# Altium schematic symbol library Display.SchLib: 2 symbols
Pins are listed as number, name and electrical type; pins without a type are passive.

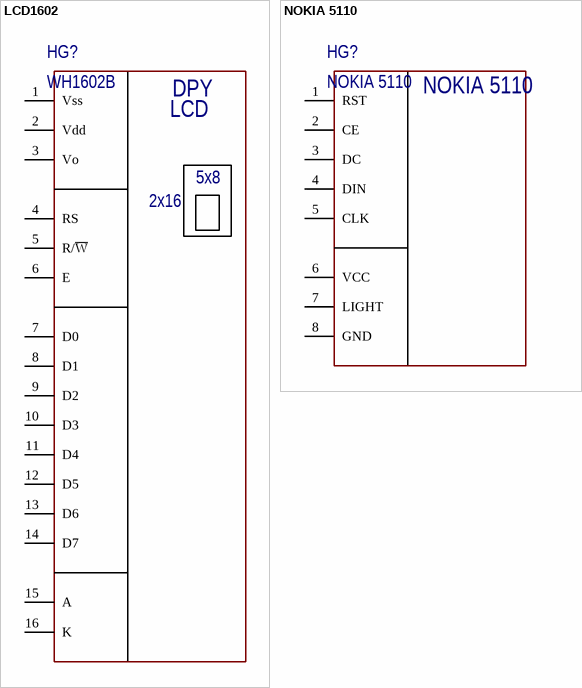
[diagram p0: symbols LCD1602 to NOKIA 5110]

## LCD1602
designator HG?, comment WH1602B
Производитель: *; УникальныйНомер: *; Типоразмер: *; Ссылка: *; ТипКомпонента: *; Точность: *; Напряжение: *; Значение: *
footprint DISP: 1602
pins: 1 Vss, 2 Vdd, 3 Vo, 4 RS, 5 R/~{W}, 6 E, 7 D0, 8 D1, 9 D2, 10 D3, 11 D4, 12 D5, 13 D6, 14 D7, 15 A, 16 K
text: DPY; LCD; 5x8; 2x16

## NOKIA 5110
designator HG?
Производитель: Nokia; УникальныйНомер: *; Типоразмер: Nokia5110; Ссылка: *; ТипКомпонента: *; Точность: *; Напряжение: *; Значение: *
footprint DISP: Nokia 5110
pins: 1 RST, 2 CE, 3 DC, 4 DIN, 5 CLK, 6 VCC, 7 LIGHT, 8 GND